# EAGLE library part DUINO_DIGITAL_SOLDER_PTS (library lightuino3.lbrlightuino3.1)
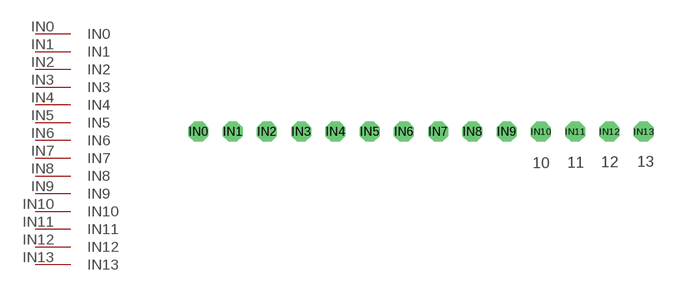
[diagram p14: symbol with the pads of DUINO_DIGITAL_SOLDER_PTS; footprint DUINO_DIGITAL_SOLDER_PTS]

Designator prefix -

## DUINO_DIGITAL_SOLDER_PTS  [DUINO_DIGITAL_SOLDER_PTS]
IN0  IN0
IN1  IN1
IN2  IN2
IN3  IN3
IN4  IN4
IN5  IN5
IN6  IN6
IN7  IN7
IN8  IN8
IN9  IN9
IN10  IN10
IN11  IN11
IN12  IN12
IN13  IN13

## Footprint DUINO_DIGITAL_SOLDER_PTS (pad centres in mm)
drill 0.6 pad 1.016 octagon: IN0 -12.065,-0.635; IN1 -10.16,-0.635; IN2 -8.255,-0.635; IN3 -6.35,-0.635; IN4 -4.445,-0.635; IN5 -2.54,-0.635; IN6 -0.635,-0.635; IN7 1.27,-0.635; IN8 3.175,-0.635; IN9 5.08,-0.635; IN10 6.985,-0.635; IN11 8.89,-0.635; IN12 10.795,-0.635; IN13 12.7,-0.635